# Altium integrated library Linear Technology Power Management LDO Linear Regulators.IntLib: 2339 symbols (part 48 of 131)
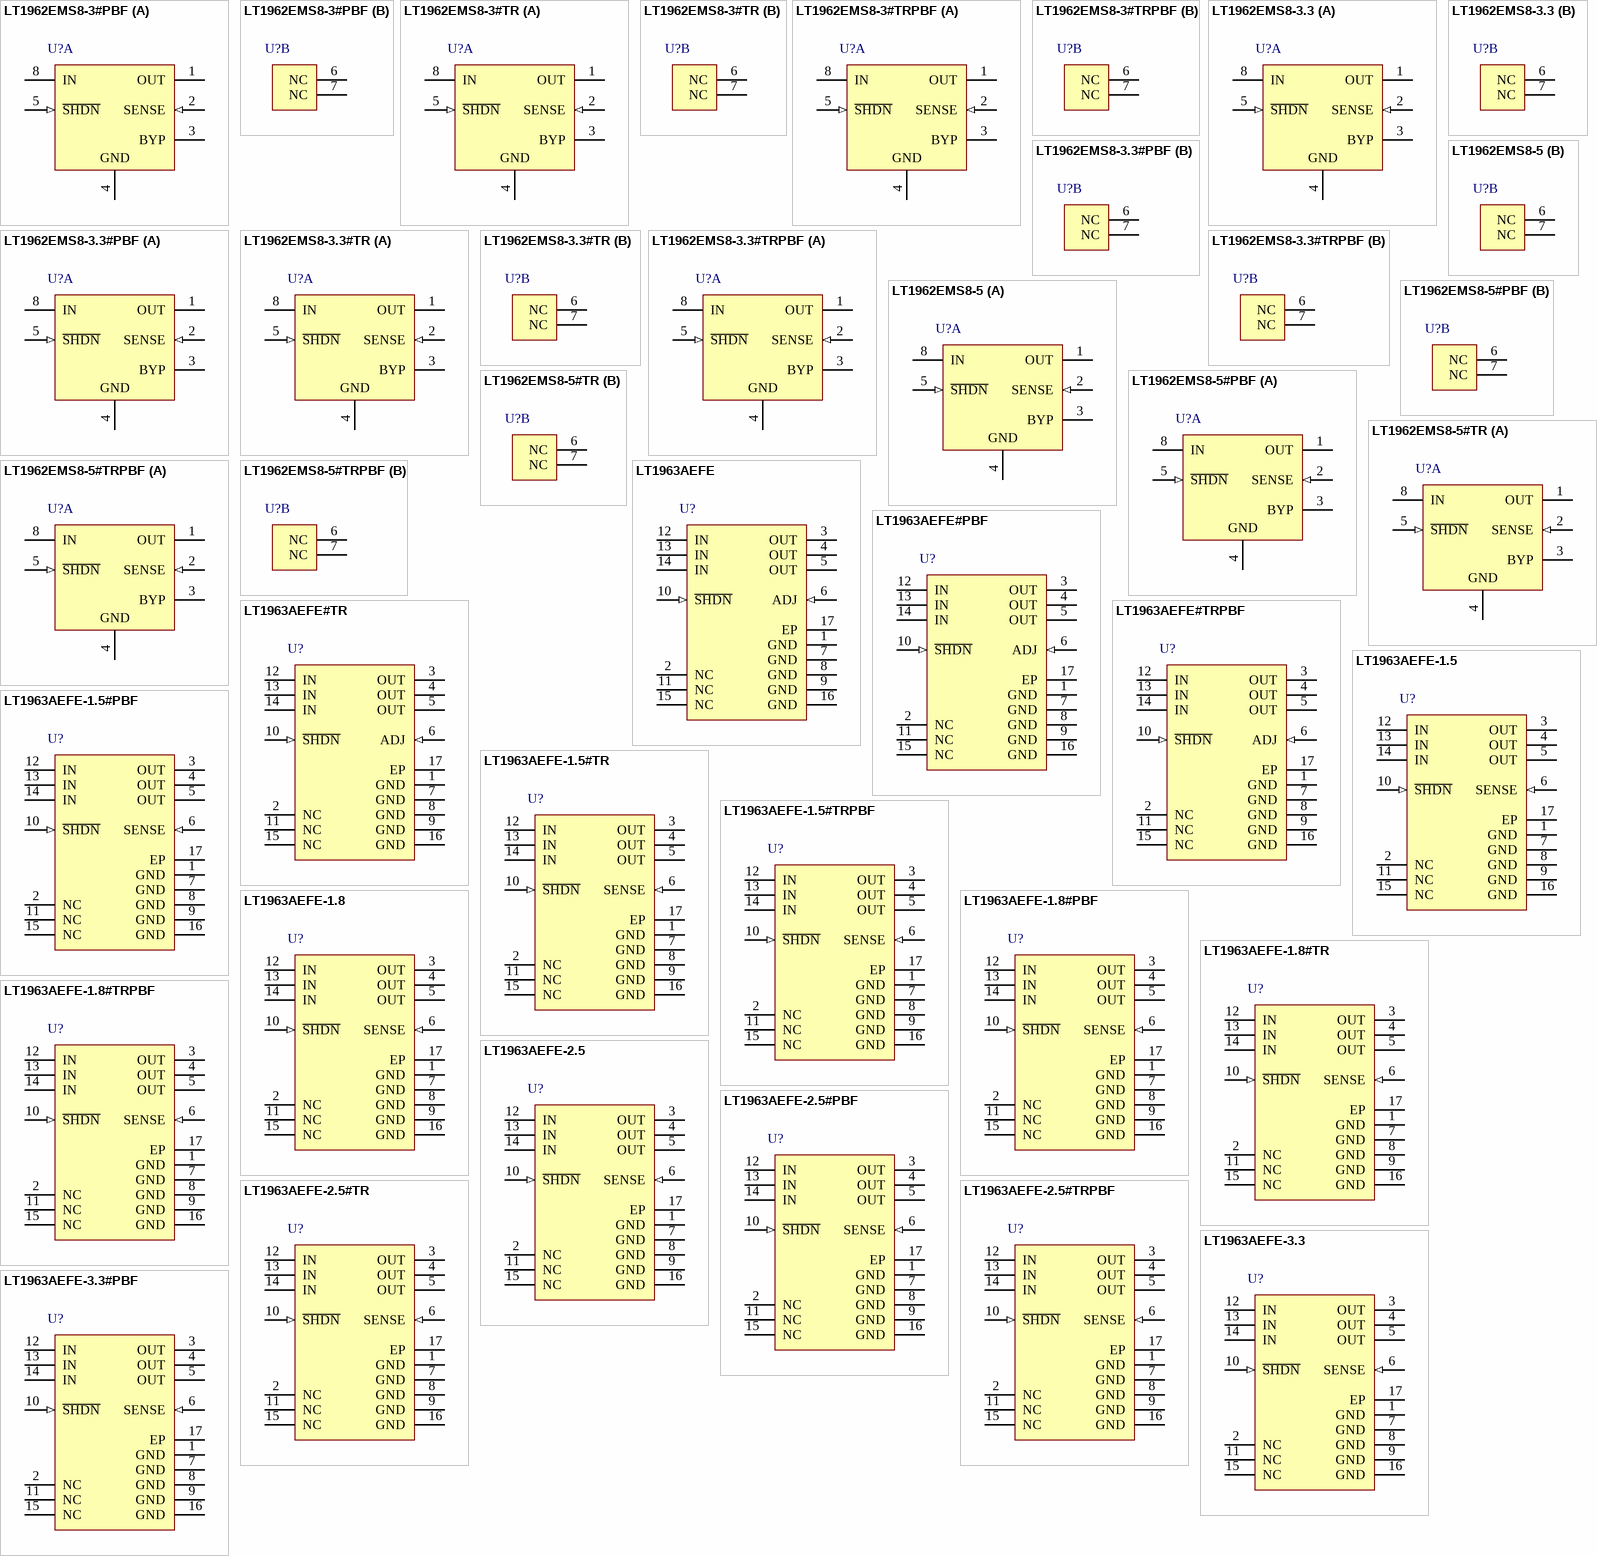
[diagram p116: symbols LT1962EMS8-3#PBF to LT1963AEFE-3.3#PBF]

## LT1963AEFE-1.8#TR
designator U?
1.5 A, Low Noise, Fast Transient Response LDO Regulator, 2.1 to 20 V Vin, 1.8 V Vout, 16-pin SOP (FE-16-EPV-BB), -40 to 125 degC, Tape and Reel; Manufacturer: Linear Technology; PartNumber: LT1963AEFE-1.8#TR; Discrete Pass Element: no; Dropout Voltage(V): 0.34; Iout(mA): 1500; Isupply(mA): 1; Noise(uV): 40; Output Voltage: 1.8 V; PSRR(dB): 63; Shutdown Current(uA): 0.01; Vin Max(V): 20; Vin Min(V): 2.1; DatasheetVersion: Rev. E; PackageVersion: Rev. J, 11/2012; PackageReference: FE-16; PackageDescription: 16-Pin Plastic TSSOP, Body 5 x 4.4 mm, Pitch 0.65 mm; Number of Outputs: 1; Packing: Tape and Reel; RoHS: FALSE; Mounting Technology: Surface Mount; ComponentLink1Description: Manufacturer URL; ComponentLink1URL: http://www.linear.com/; ComponentLink2Description: Datasheet; ComponentLink2URL: http://cds.linear.com/docs/en/datasheet/1963afe.pdf; ComponentLink3Description: Package Specification; ComponentLink3URL: http://cds.linear.com/docs/en/packaging/05081663__J_FE16(BB).pdf
footprint LT-FE-16-EPV-BB_N (SOP, 16-Leads, Body 5.1x4.5mm, Pitch 0.65mm, Thermal Pad 3.58x2.94mm, IPC Medium Density)
footprint LT-FE-16-EPV-BB_L (SOP, 16-Leads, Body 5.1x4.5mm, Pitch 0.65mm, Thermal Pad 3.58x2.94mm, IPC High Density)
footprint LT-FE-16-EPV-BB_M (SOP, 16-Leads, Body 5.1x4.5mm, Pitch 0.65mm, Thermal Pad 3.58x2.94mm, IPC Low Density)
pins: 1 GND (power), 2 NC, 3 OUT (power) "Output. The output supplies power to the load. A minimum output capacitor of 10uF is required to prevent oscillations. Larger output capacitors will be required for applications with large transient loads to limit peak (See Datasheet)", 4 OUT (power) "Output. The output supplies power to the load. A minimum output capacitor of 10uF is required to prevent oscillations. Larger output capacitors will be required for applications with large transient loads to limit peak (See Datasheet)", 5 OUT (power) "Output. The output supplies power to the load. A minimum output capacitor of 10uF is required to prevent oscillations. Larger output capacitors will be required for applications with large transient loads to limit peak (See Datasheet)", 6 SENSE (in), 7 GND (power), 8 GND (power), 9 GND (power), 10 ~{SHDN} (in), 11 NC, 12 IN (power), 13 IN (power), 14 IN (power), 15 NC, 16 GND (power), 17 EP (power)

## LT1963AEFE-1.8#TRPBF
designator U?
1.5 A, Low Noise, Fast Transient Response LDO Regulator, 2.1 to 20 V Vin, 1.8 V Vout, 16-pin SOP (FE-16-EPV-BB), -40 to 125 degC, Pb-Free, Tape and Reel; Manufacturer: Linear Technology; PartNumber: LT1963AEFE-1.8#TRPBF; Discrete Pass Element: no; Dropout Voltage(V): 0.34; Iout(mA): 1500; Isupply(mA): 1; Noise(uV): 40; Output Voltage: 1.8 V; PSRR(dB): 63; Shutdown Current(uA): 0.01; Vin Max(V): 20; Vin Min(V): 2.1; DatasheetVersion: Rev. E; PackageVersion: Rev. J, 11/2012; PackageReference: FE-16; PackageDescription: 16-Pin Plastic TSSOP, Body 5 x 4.4 mm, Pitch 0.65 mm; Supplier 1: Digi-Key; Supplier Part Number 1: LT1963AEFE-1.8#TRPBF-ND; Number of Outputs: 1; Packing: Tape and Reel; RoHS: TRUE; Mounting Technology: Surface Mount; ComponentLink1Description: Manufacturer URL; ComponentLink1URL: http://www.linear.com/; ComponentLink2Description: Datasheet; ComponentLink2URL: http://cds.linear.com/docs/en/datasheet/1963afe.pdf; ComponentLink3Description: Package Specification; ComponentLink3URL: http://cds.linear.com/docs/en/packaging/05081663__J_FE16(BB).pdf
footprint LT-FE-16-EPV-BB_N (SOP, 16-Leads, Body 5.1x4.5mm, Pitch 0.65mm, Thermal Pad 3.58x2.94mm, IPC Medium Density)
footprint LT-FE-16-EPV-BB_L (SOP, 16-Leads, Body 5.1x4.5mm, Pitch 0.65mm, Thermal Pad 3.58x2.94mm, IPC High Density)
footprint LT-FE-16-EPV-BB_M (SOP, 16-Leads, Body 5.1x4.5mm, Pitch 0.65mm, Thermal Pad 3.58x2.94mm, IPC Low Density)
pins: 1 GND (power), 2 NC, 3 OUT (power) "Output. The output supplies power to the load. A minimum output capacitor of 10uF is required to prevent oscillations. Larger output capacitors will be required for applications with large transient loads to limit peak (See Datasheet)", 4 OUT (power) "Output. The output supplies power to the load. A minimum output capacitor of 10uF is required to prevent oscillations. Larger output capacitors will be required for applications with large transient loads to limit peak (See Datasheet)", 5 OUT (power) "Output. The output supplies power to the load. A minimum output capacitor of 10uF is required to prevent oscillations. Larger output capacitors will be required for applications with large transient loads to limit peak (See Datasheet)", 6 SENSE (in), 7 GND (power), 8 GND (power), 9 GND (power), 10 ~{SHDN} (in), 11 NC, 12 IN (power), 13 IN (power), 14 IN (power), 15 NC, 16 GND (power), 17 EP (power)

## LT1963AEFE-2.5
designator U?
1.5 A, Low Noise, Fast Transient Response LDO Regulator, 2.1 to 20 V Vin, 2.5 V Vout, 16-pin SOP (FE-16-EPV-BB), -40 to 125 degC; Manufacturer: Linear Technology; PartNumber: LT1963AEFE-2.5; Discrete Pass Element: no; Dropout Voltage(V): 0.34; Iout(mA): 1500; Isupply(mA): 1; Noise(uV): 40; Output Voltage: 2.5 V; PSRR(dB): 63; Shutdown Current(uA): 0.01; Vin Max(V): 20; Vin Min(V): 2.1; DatasheetVersion: Rev. E; PackageVersion: Rev. J, 11/2012; PackageReference: FE-16; PackageDescription: 16-Pin Plastic TSSOP, Body 5 x 4.4 mm, Pitch 0.65 mm; Supplier 1: Newark; Supplier Part Number 1: 57M7416; Number of Outputs: 1; RoHS: FALSE; Mounting Technology: Surface Mount; ComponentLink1Description: Manufacturer URL; ComponentLink1URL: http://www.linear.com/; ComponentLink2Description: Datasheet; ComponentLink2URL: http://cds.linear.com/docs/en/datasheet/1963afe.pdf; ComponentLink3Description: Package Specification; ComponentLink3URL: http://cds.linear.com/docs/en/packaging/05081663__J_FE16(BB).pdf
footprint LT-FE-16-EPV-BB_N (SOP, 16-Leads, Body 5.1x4.5mm, Pitch 0.65mm, Thermal Pad 3.58x2.94mm, IPC Medium Density)
footprint LT-FE-16-EPV-BB_L (SOP, 16-Leads, Body 5.1x4.5mm, Pitch 0.65mm, Thermal Pad 3.58x2.94mm, IPC High Density)
footprint LT-FE-16-EPV-BB_M (SOP, 16-Leads, Body 5.1x4.5mm, Pitch 0.65mm, Thermal Pad 3.58x2.94mm, IPC Low Density)
pins: 1 GND (power), 2 NC, 3 OUT (power) "Output. The output supplies power to the load. A minimum output capacitor of 10uF is required to prevent oscillations. Larger output capacitors will be required for applications with large transient loads to limit peak (See Datasheet)", 4 OUT (power) "Output. The output supplies power to the load. A minimum output capacitor of 10uF is required to prevent oscillations. Larger output capacitors will be required for applications with large transient loads to limit peak (See Datasheet)", 5 OUT (power) "Output. The output supplies power to the load. A minimum output capacitor of 10uF is required to prevent oscillations. Larger output capacitors will be required for applications with large transient loads to limit peak (See Datasheet)", 6 SENSE (in), 7 GND (power), 8 GND (power), 9 GND (power), 10 ~{SHDN} (in), 11 NC, 12 IN (power), 13 IN (power), 14 IN (power), 15 NC, 16 GND (power), 17 EP (power)

## LT1963AEFE-2.5#PBF
designator U?
1.5 A, Low Noise, Fast Transient Response LDO Regulator, 2.1 to 20 V Vin, 2.5 V Vout, 16-pin SOP (FE-16-EPV-BB), -40 to 125 degC, Pb-Free; Manufacturer: Linear Technology; PartNumber: LT1963AEFE-2.5#PBF; Discrete Pass Element: no; Dropout Voltage(V): 0.34; Iout(mA): 1500; Isupply(mA): 1; Noise(uV): 40; Output Voltage: 2.5 V; PSRR(dB): 63; Shutdown Current(uA): 0.01; Vin Max(V): 20; Vin Min(V): 2.1; DatasheetVersion: Rev. E; PackageVersion: Rev. J, 11/2012; PackageReference: FE-16; PackageDescription: 16-Pin Plastic TSSOP, Body 5 x 4.4 mm, Pitch 0.65 mm; Supplier 1: Digi-Key; Supplier Part Number 1: LT1963AEFE-2.5#PBF-ND; Supplier 2: Newark; Supplier Part Number 2: 57M7417; Number of Outputs: 1; RoHS: TRUE; Mounting Technology: Surface Mount; ComponentLink1Description: Manufacturer URL; ComponentLink1URL: http://www.linear.com/; ComponentLink2Description: Datasheet; ComponentLink2URL: http://cds.linear.com/docs/en/datasheet/1963afe.pdf; ComponentLink3Description: Package Specification; ComponentLink3URL: http://cds.linear.com/docs/en/packaging/05081663__J_FE16(BB).pdf
footprint LT-FE-16-EPV-BB_N (SOP, 16-Leads, Body 5.1x4.5mm, Pitch 0.65mm, Thermal Pad 3.58x2.94mm, IPC Medium Density)
footprint LT-FE-16-EPV-BB_L (SOP, 16-Leads, Body 5.1x4.5mm, Pitch 0.65mm, Thermal Pad 3.58x2.94mm, IPC High Density)
footprint LT-FE-16-EPV-BB_M (SOP, 16-Leads, Body 5.1x4.5mm, Pitch 0.65mm, Thermal Pad 3.58x2.94mm, IPC Low Density)
pins: 1 GND (power), 2 NC, 3 OUT (power) "Output. The output supplies power to the load. A minimum output capacitor of 10uF is required to prevent oscillations. Larger output capacitors will be required for applications with large transient loads to limit peak (See Datasheet)", 4 OUT (power) "Output. The output supplies power to the load. A minimum output capacitor of 10uF is required to prevent oscillations. Larger output capacitors will be required for applications with large transient loads to limit peak (See Datasheet)", 5 OUT (power) "Output. The output supplies power to the load. A minimum output capacitor of 10uF is required to prevent oscillations. Larger output capacitors will be required for applications with large transient loads to limit peak (See Datasheet)", 6 SENSE (in), 7 GND (power), 8 GND (power), 9 GND (power), 10 ~{SHDN} (in), 11 NC, 12 IN (power), 13 IN (power), 14 IN (power), 15 NC, 16 GND (power), 17 EP (power)

## LT1963AEFE-2.5#TR
designator U?
1.5 A, Low Noise, Fast Transient Response LDO Regulator, 2.1 to 20 V Vin, 2.5 V Vout, 16-pin SOP (FE-16-EPV-BB), -40 to 125 degC, Tape and Reel; Manufacturer: Linear Technology; PartNumber: LT1963AEFE-2.5#TR; Discrete Pass Element: no; Dropout Voltage(V): 0.34; Iout(mA): 1500; Isupply(mA): 1; Noise(uV): 40; Output Voltage: 2.5 V; PSRR(dB): 63; Shutdown Current(uA): 0.01; Vin Max(V): 20; Vin Min(V): 2.1; DatasheetVersion: Rev. E; PackageVersion: Rev. J, 11/2012; PackageReference: FE-16; PackageDescription: 16-Pin Plastic TSSOP, Body 5 x 4.4 mm, Pitch 0.65 mm; Supplier 1: Newark; Supplier Part Number 1: 57M7418; Number of Outputs: 1; Packing: Tape and Reel; RoHS: FALSE; Mounting Technology: Surface Mount; ComponentLink1Description: Manufacturer URL; ComponentLink1URL: http://www.linear.com/; ComponentLink2Description: Datasheet; ComponentLink2URL: http://cds.linear.com/docs/en/datasheet/1963afe.pdf; ComponentLink3Description: Package Specification; ComponentLink3URL: http://cds.linear.com/docs/en/packaging/05081663__J_FE16(BB).pdf
footprint LT-FE-16-EPV-BB_N (SOP, 16-Leads, Body 5.1x4.5mm, Pitch 0.65mm, Thermal Pad 3.58x2.94mm, IPC Medium Density)
footprint LT-FE-16-EPV-BB_L (SOP, 16-Leads, Body 5.1x4.5mm, Pitch 0.65mm, Thermal Pad 3.58x2.94mm, IPC High Density)
footprint LT-FE-16-EPV-BB_M (SOP, 16-Leads, Body 5.1x4.5mm, Pitch 0.65mm, Thermal Pad 3.58x2.94mm, IPC Low Density)
pins: 1 GND (power), 2 NC, 3 OUT (power) "Output. The output supplies power to the load. A minimum output capacitor of 10uF is required to prevent oscillations. Larger output capacitors will be required for applications with large transient loads to limit peak (See Datasheet)", 4 OUT (power) "Output. The output supplies power to the load. A minimum output capacitor of 10uF is required to prevent oscillations. Larger output capacitors will be required for applications with large transient loads to limit peak (See Datasheet)", 5 OUT (power) "Output. The output supplies power to the load. A minimum output capacitor of 10uF is required to prevent oscillations. Larger output capacitors will be required for applications with large transient loads to limit peak (See Datasheet)", 6 SENSE (in), 7 GND (power), 8 GND (power), 9 GND (power), 10 ~{SHDN} (in), 11 NC, 12 IN (power), 13 IN (power), 14 IN (power), 15 NC, 16 GND (power), 17 EP (power)

## LT1963AEFE-2.5#TRPBF
designator U?
1.5 A, Low Noise, Fast Transient Response LDO Regulator, 2.1 to 20 V Vin, 2.5 V Vout, 16-pin SOP (FE-16-EPV-BB), -40 to 125 degC, Pb-Free, Tape and Reel; Manufacturer: Linear Technology; PartNumber: LT1963AEFE-2.5#TRPBF; Discrete Pass Element: no; Dropout Voltage(V): 0.34; Iout(mA): 1500; Isupply(mA): 1; Noise(uV): 40; Output Voltage: 2.5 V; PSRR(dB): 63; Shutdown Current(uA): 0.01; Vin Max(V): 20; Vin Min(V): 2.1; DatasheetVersion: Rev. E; PackageVersion: Rev. J, 11/2012; PackageReference: FE-16; PackageDescription: 16-Pin Plastic TSSOP, Body 5 x 4.4 mm, Pitch 0.65 mm; Supplier 1: Digi-Key; Supplier Part Number 1: LT1963AEFE-2.5#TRPBF-ND; Number of Outputs: 1; Packing: Tape and Reel; RoHS: TRUE; Mounting Technology: Surface Mount; ComponentLink1Description: Manufacturer URL; ComponentLink1URL: http://www.linear.com/; ComponentLink2Description: Datasheet; ComponentLink2URL: http://cds.linear.com/docs/en/datasheet/1963afe.pdf; ComponentLink3Description: Package Specification; ComponentLink3URL: http://cds.linear.com/docs/en/packaging/05081663__J_FE16(BB).pdf
footprint LT-FE-16-EPV-BB_N (SOP, 16-Leads, Body 5.1x4.5mm, Pitch 0.65mm, Thermal Pad 3.58x2.94mm, IPC Medium Density)
footprint LT-FE-16-EPV-BB_L (SOP, 16-Leads, Body 5.1x4.5mm, Pitch 0.65mm, Thermal Pad 3.58x2.94mm, IPC High Density)
footprint LT-FE-16-EPV-BB_M (SOP, 16-Leads, Body 5.1x4.5mm, Pitch 0.65mm, Thermal Pad 3.58x2.94mm, IPC Low Density)
pins: 1 GND (power), 2 NC, 3 OUT (power) "Output. The output supplies power to the load. A minimum output capacitor of 10uF is required to prevent oscillations. Larger output capacitors will be required for applications with large transient loads to limit peak (See Datasheet)", 4 OUT (power) "Output. The output supplies power to the load. A minimum output capacitor of 10uF is required to prevent oscillations. Larger output capacitors will be required for applications with large transient loads to limit peak (See Datasheet)", 5 OUT (power) "Output. The output supplies power to the load. A minimum output capacitor of 10uF is required to prevent oscillations. Larger output capacitors will be required for applications with large transient loads to limit peak (See Datasheet)", 6 SENSE (in), 7 GND (power), 8 GND (power), 9 GND (power), 10 ~{SHDN} (in), 11 NC, 12 IN (power), 13 IN (power), 14 IN (power), 15 NC, 16 GND (power), 17 EP (power)

## LT1963AEFE-3.3
designator U?
1.5 A, Low Noise, Fast Transient Response LDO Regulator, 2.1 to 20 V Vin, 3.3 V Vout, 16-pin SOP (FE-16-EPV-BB), -40 to 125 degC; Manufacturer: Linear Technology; PartNumber: LT1963AEFE-3.3; Discrete Pass Element: no; Dropout Voltage(V): 0.34; Iout(mA): 1500; Isupply(mA): 1; Noise(uV): 40; Output Voltage: 3.3 V; PSRR(dB): 63; Shutdown Current(uA): 0.01; Vin Max(V): 20; Vin Min(V): 2.1; DatasheetVersion: Rev. E; PackageVersion: Rev. J, 11/2012; PackageReference: FE-16; PackageDescription: 16-Pin Plastic TSSOP, Body 5 x 4.4 mm, Pitch 0.65 mm; Number of Outputs: 1; RoHS: FALSE; Mounting Technology: Surface Mount; ComponentLink1Description: Manufacturer URL; ComponentLink1URL: http://www.linear.com/; ComponentLink2Description: Datasheet; ComponentLink2URL: http://cds.linear.com/docs/en/datasheet/1963afe.pdf; ComponentLink3Description: Package Specification; ComponentLink3URL: http://cds.linear.com/docs/en/packaging/05081663__J_FE16(BB).pdf
footprint LT-FE-16-EPV-BB_N (SOP, 16-Leads, Body 5.1x4.5mm, Pitch 0.65mm, Thermal Pad 3.58x2.94mm, IPC Medium Density)
footprint LT-FE-16-EPV-BB_L (SOP, 16-Leads, Body 5.1x4.5mm, Pitch 0.65mm, Thermal Pad 3.58x2.94mm, IPC High Density)
footprint LT-FE-16-EPV-BB_M (SOP, 16-Leads, Body 5.1x4.5mm, Pitch 0.65mm, Thermal Pad 3.58x2.94mm, IPC Low Density)
pins: 1 GND (power), 2 NC, 3 OUT (power) "Output. The output supplies power to the load. A minimum output capacitor of 10uF is required to prevent oscillations. Larger output capacitors will be required for applications with large transient loads to limit peak (See Datasheet)", 4 OUT (power) "Output. The output supplies power to the load. A minimum output capacitor of 10uF is required to prevent oscillations. Larger output capacitors will be required for applications with large transient loads to limit peak (See Datasheet)", 5 OUT (power) "Output. The output supplies power to the load. A minimum output capacitor of 10uF is required to prevent oscillations. Larger output capacitors will be required for applications with large transient loads to limit peak (See Datasheet)", 6 SENSE (in), 7 GND (power), 8 GND (power), 9 GND (power), 10 ~{SHDN} (in), 11 NC, 12 IN (power), 13 IN (power), 14 IN (power), 15 NC, 16 GND (power), 17 EP (power)

## LT1963AEFE-3.3#PBF
designator U?
1.5 A, Low Noise, Fast Transient Response LDO Regulator, 2.1 to 20 V Vin, 3.3 V Vout, 16-pin SOP (FE-16-EPV-BB), -40 to 125 degC, Pb-Free; Manufacturer: Linear Technology; PartNumber: LT1963AEFE-3.3#PBF; Discrete Pass Element: no; Dropout Voltage(V): 0.34; Iout(mA): 1500; Isupply(mA): 1; Noise(uV): 40; Output Voltage: 3.3 V; PSRR(dB): 63; Shutdown Current(uA): 0.01; Vin Max(V): 20; Vin Min(V): 2.1; DatasheetVersion: Rev. E; PackageVersion: Rev. J, 11/2012; PackageReference: FE-16; PackageDescription: 16-Pin Plastic TSSOP, Body 5 x 4.4 mm, Pitch 0.65 mm; Supplier 1: Digi-Key; Supplier Part Number 1: LT1963AEFE-3.3#PBF-ND; Supplier 2: Farnell; Supplier Part Number 2: 2254861; Supplier 3: Newark; Supplier Part Number 3: 57M7421; Number of Outputs: 1; RoHS: TRUE; Mounting Technology: Surface Mount; ComponentLink1Description: Manufacturer URL; ComponentLink1URL: http://www.linear.com/; ComponentLink2Description: Datasheet; ComponentLink2URL: http://cds.linear.com/docs/en/datasheet/1963afe.pdf; ComponentLink3Description: Package Specification; ComponentLink3URL: http://cds.linear.com/docs/en/packaging/05081663__J_FE16(BB).pdf
footprint LT-FE-16-EPV-BB_N (SOP, 16-Leads, Body 5.1x4.5mm, Pitch 0.65mm, Thermal Pad 3.58x2.94mm, IPC Medium Density)
footprint LT-FE-16-EPV-BB_L (SOP, 16-Leads, Body 5.1x4.5mm, Pitch 0.65mm, Thermal Pad 3.58x2.94mm, IPC High Density)
footprint LT-FE-16-EPV-BB_M (SOP, 16-Leads, Body 5.1x4.5mm, Pitch 0.65mm, Thermal Pad 3.58x2.94mm, IPC Low Density)
pins: 1 GND (power), 2 NC, 3 OUT (power) "Output. The output supplies power to the load. A minimum output capacitor of 10uF is required to prevent oscillations. Larger output capacitors will be required for applications with large transient loads to limit peak (See Datasheet)", 4 OUT (power) "Output. The output supplies power to the load. A minimum output capacitor of 10uF is required to prevent oscillations. Larger output capacitors will be required for applications with large transient loads to limit peak (See Datasheet)", 5 OUT (power) "Output. The output supplies power to the load. A minimum output capacitor of 10uF is required to prevent oscillations. Larger output capacitors will be required for applications with large transient loads to limit peak (See Datasheet)", 6 SENSE (in), 7 GND (power), 8 GND (power), 9 GND (power), 10 ~{SHDN} (in), 11 NC, 12 IN (power), 13 IN (power), 14 IN (power), 15 NC, 16 GND (power), 17 EP (power)

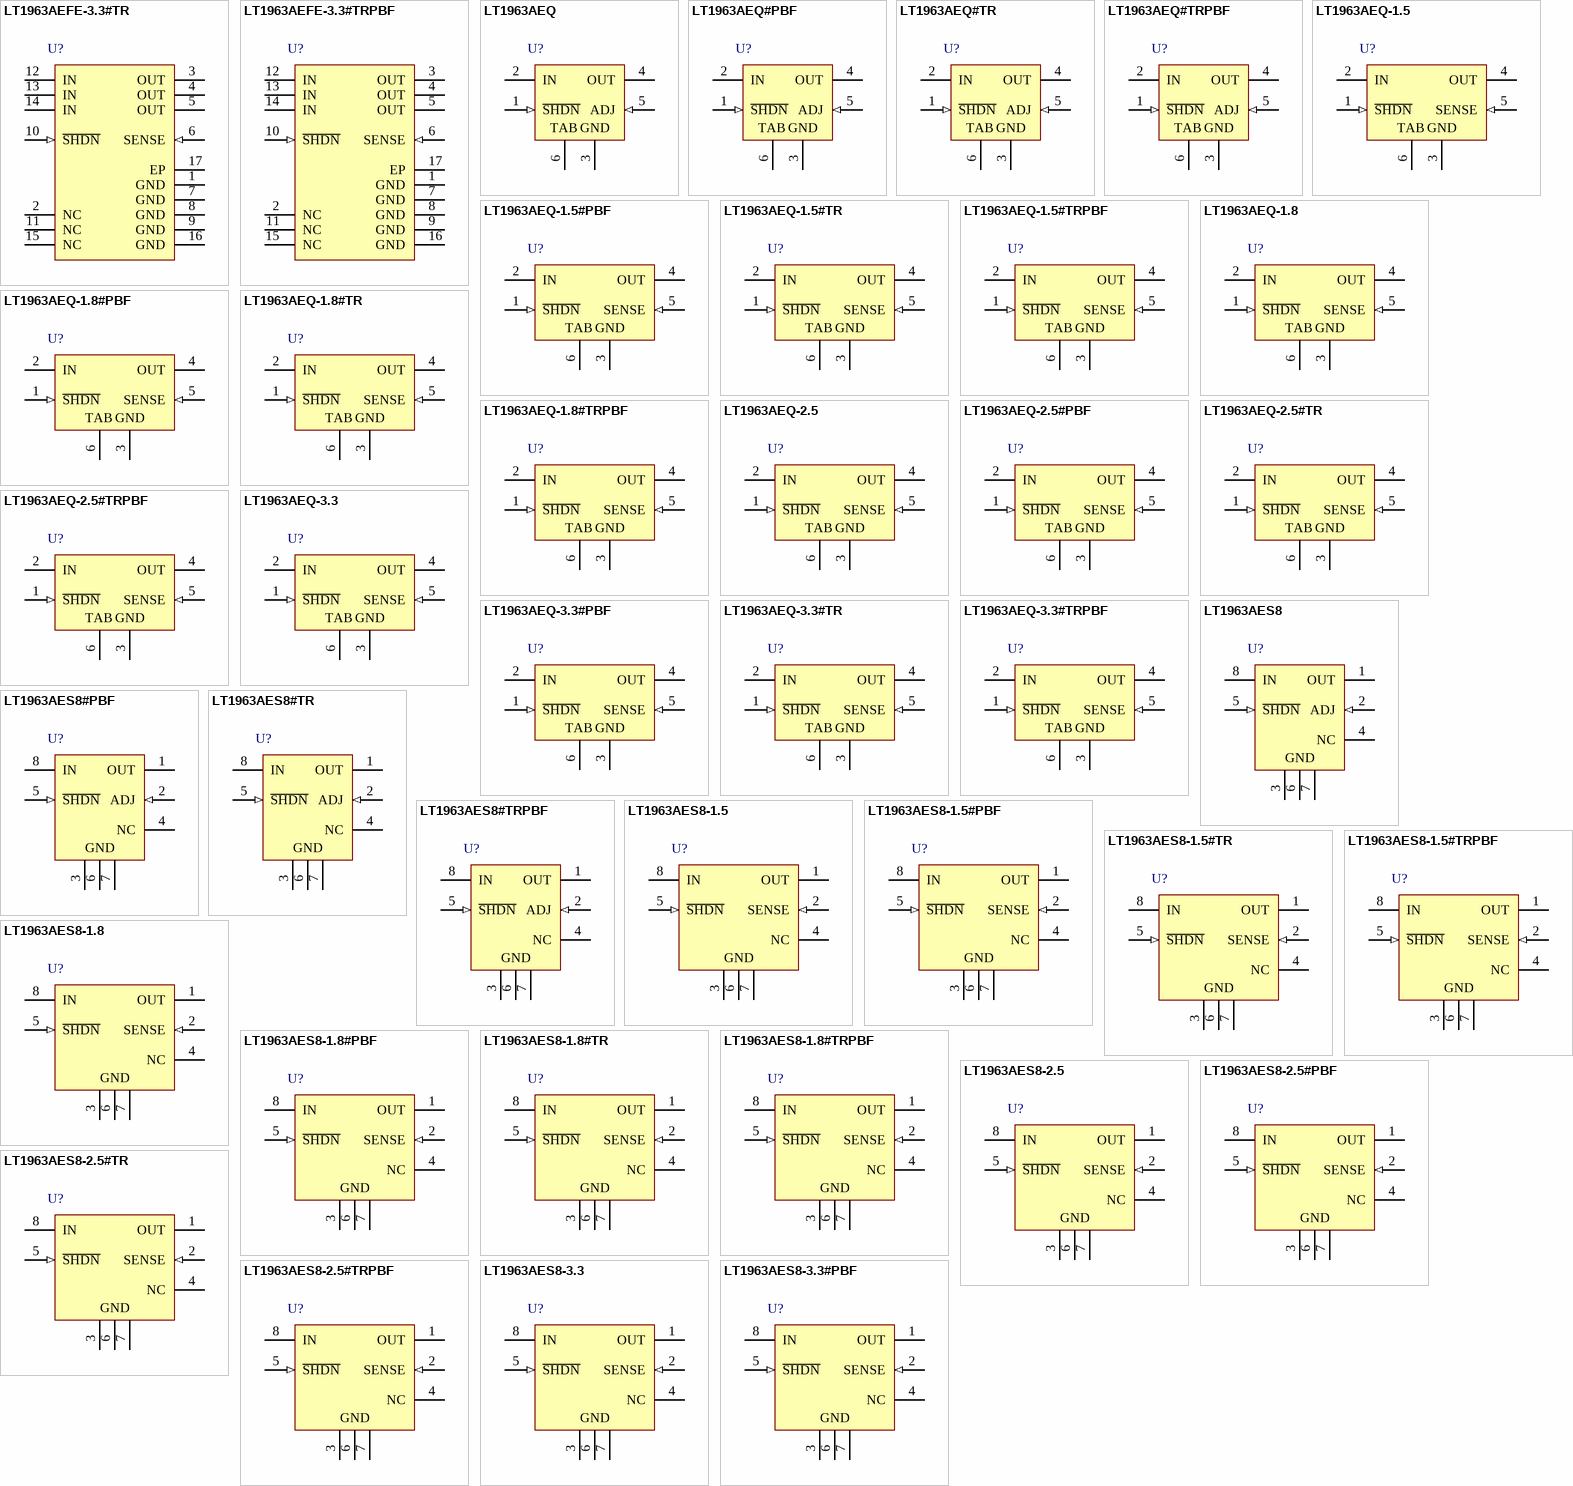
[diagram p32: symbols LT1963AEFE-3.3#TR to LT1963AES8-3.3#PBF]

## LT1963AEFE-3.3#TR
designator U?
1.5 A, Low Noise, Fast Transient Response LDO Regulator, 2.1 to 20 V Vin, 3.3 V Vout, 16-pin SOP (FE-16-EPV-BB), -40 to 125 degC, Tape and Reel; Manufacturer: Linear Technology; PartNumber: LT1963AEFE-3.3#TR; Discrete Pass Element: no; Dropout Voltage(V): 0.34; Iout(mA): 1500; Isupply(mA): 1; Noise(uV): 40; Output Voltage: 3.3 V; PSRR(dB): 63; Shutdown Current(uA): 0.01; Vin Max(V): 20; Vin Min(V): 2.1; DatasheetVersion: Rev. E; PackageVersion: Rev. J, 11/2012; PackageReference: FE-16; PackageDescription: 16-Pin Plastic TSSOP, Body 5 x 4.4 mm, Pitch 0.65 mm; Number of Outputs: 1; Packing: Tape and Reel; RoHS: FALSE; Mounting Technology: Surface Mount; ComponentLink1Description: Manufacturer URL; ComponentLink1URL: http://www.linear.com/; ComponentLink2Description: Datasheet; ComponentLink2URL: http://cds.linear.com/docs/en/datasheet/1963afe.pdf; ComponentLink3Description: Package Specification; ComponentLink3URL: http://cds.linear.com/docs/en/packaging/05081663__J_FE16(BB).pdf
footprint LT-FE-16-EPV-BB_N (SOP, 16-Leads, Body 5.1x4.5mm, Pitch 0.65mm, Thermal Pad 3.58x2.94mm, IPC Medium Density)
footprint LT-FE-16-EPV-BB_L (SOP, 16-Leads, Body 5.1x4.5mm, Pitch 0.65mm, Thermal Pad 3.58x2.94mm, IPC High Density)
footprint LT-FE-16-EPV-BB_M (SOP, 16-Leads, Body 5.1x4.5mm, Pitch 0.65mm, Thermal Pad 3.58x2.94mm, IPC Low Density)
pins: 1 GND (power), 2 NC, 3 OUT (power) "Output. The output supplies power to the load. A minimum output capacitor of 10uF is required to prevent oscillations. Larger output capacitors will be required for applications with large transient loads to limit peak (See Datasheet)", 4 OUT (power) "Output. The output supplies power to the load. A minimum output capacitor of 10uF is required to prevent oscillations. Larger output capacitors will be required for applications with large transient loads to limit peak (See Datasheet)", 5 OUT (power) "Output. The output supplies power to the load. A minimum output capacitor of 10uF is required to prevent oscillations. Larger output capacitors will be required for applications with large transient loads to limit peak (See Datasheet)", 6 SENSE (in), 7 GND (power), 8 GND (power), 9 GND (power), 10 ~{SHDN} (in), 11 NC, 12 IN (power), 13 IN (power), 14 IN (power), 15 NC, 16 GND (power), 17 EP (power)

## LT1963AEFE-3.3#TRPBF
designator U?
1.5 A, Low Noise, Fast Transient Response LDO Regulator, 2.1 to 20 V Vin, 3.3 V Vout, 16-pin SOP (FE-16-EPV-BB), -40 to 125 degC, Pb-Free, Tape and Reel; Manufacturer: Linear Technology; PartNumber: LT1963AEFE-3.3#TRPBF; Discrete Pass Element: no; Dropout Voltage(V): 0.34; Iout(mA): 1500; Isupply(mA): 1; Noise(uV): 40; Output Voltage: 3.3 V; PSRR(dB): 63; Shutdown Current(uA): 0.01; Vin Max(V): 20; Vin Min(V): 2.1; DatasheetVersion: Rev. E; PackageVersion: Rev. J, 11/2012; PackageReference: FE-16; PackageDescription: 16-Pin Plastic TSSOP, Body 5 x 4.4 mm, Pitch 0.65 mm; Supplier 1: Digi-Key; Supplier Part Number 1: LT1963AEFE-3.3#TRPBF-ND; Supplier 2: Newark; Supplier Part Number 2: 57M7423; Number of Outputs: 1; Packing: Tape and Reel; RoHS: TRUE; Mounting Technology: Surface Mount; ComponentLink1Description: Manufacturer URL; ComponentLink1URL: http://www.linear.com/; ComponentLink2Description: Datasheet; ComponentLink2URL: http://cds.linear.com/docs/en/datasheet/1963afe.pdf; ComponentLink3Description: Package Specification; ComponentLink3URL: http://cds.linear.com/docs/en/packaging/05081663__J_FE16(BB).pdf
footprint LT-FE-16-EPV-BB_N (SOP, 16-Leads, Body 5.1x4.5mm, Pitch 0.65mm, Thermal Pad 3.58x2.94mm, IPC Medium Density)
footprint LT-FE-16-EPV-BB_L (SOP, 16-Leads, Body 5.1x4.5mm, Pitch 0.65mm, Thermal Pad 3.58x2.94mm, IPC High Density)
footprint LT-FE-16-EPV-BB_M (SOP, 16-Leads, Body 5.1x4.5mm, Pitch 0.65mm, Thermal Pad 3.58x2.94mm, IPC Low Density)
pins: 1 GND (power), 2 NC, 3 OUT (power) "Output. The output supplies power to the load. A minimum output capacitor of 10uF is required to prevent oscillations. Larger output capacitors will be required for applications with large transient loads to limit peak (See Datasheet)", 4 OUT (power) "Output. The output supplies power to the load. A minimum output capacitor of 10uF is required to prevent oscillations. Larger output capacitors will be required for applications with large transient loads to limit peak (See Datasheet)", 5 OUT (power) "Output. The output supplies power to the load. A minimum output capacitor of 10uF is required to prevent oscillations. Larger output capacitors will be required for applications with large transient loads to limit peak (See Datasheet)", 6 SENSE (in), 7 GND (power), 8 GND (power), 9 GND (power), 10 ~{SHDN} (in), 11 NC, 12 IN (power), 13 IN (power), 14 IN (power), 15 NC, 16 GND (power), 17 EP (power)

## LT1963AEQ
designator U?
1.5 A, Low Noise, Fast Transient Response LDO Regulator, 2.1 to 20 V Vin, Adjustable Vout, 5-pin DPAK (Q-5), -40 to 125 degC; Manufacturer: Linear Technology; PartNumber: LT1963AEQ; Discrete Pass Element: no; Dropout Voltage(V): 0.34; Iout(mA): 1500; Isupply(mA): 1; Noise(uV): 40; Output Voltage: Adj; PSRR(dB): 63; Shutdown Current(uA): 0.01; Vin Max(V): 20; Vin Min(V): 2.1; Vout Min(V): 1.21; DatasheetVersion: Rev. E; PackageVersion: Rev. F, 09/2011; PackageReference: Q-5; PackageDescription: 5-Pin Plastic DD Pak, Body 10.2235 x 8.89 mm, Pitch 1.702 mm; Supplier 1: Digi-Key; Supplier Part Number 1: LT1963AEQ-ND; Supplier 2: Newark; Supplier Part Number 2: 57M7427; Number of Outputs: 1; RoHS: FALSE; Vout Max(V): 20; Mounting Technology: Surface Mount; ComponentLink1Description: Manufacturer URL; ComponentLink1URL: http://www.linear.com/; ComponentLink2Description: Datasheet; ComponentLink2URL: http://cds.linear.com/docs/en/datasheet/1963afe.pdf; ComponentLink3Description: Package Specification; ComponentLink3URL: http://cds.linear.com/docs/en/packaging/Q%20DD5%2005-08-1461%20Rev%20F.pdf
footprint LT-Q-5_N (DPAK, 5-Leads, Body 10.22x8.89mm, Pitch 1.702mm, IPC Medium Density)
footprint LT-Q-5_L (DPAK, 5-Leads, Body 10.22x8.89mm, Pitch 1.702mm, IPC High Density)
footprint LT-Q-5_M (DPAK, 5-Leads, Body 10.22x8.89mm, Pitch 1.702mm, IPC Low Density)
pins: 1 ~{SHDN} (in) "Shutdown", 2 IN (power) "Input", 3 GND (power) "Ground", 4 OUT (power) "Output", 5 ADJ (in) "Adjust", 6 TAB (power) "Ground"

## LT1963AEQ#PBF
designator U?
1.5 A, Low Noise, Fast Transient Response LDO Regulator, 2.1 to 20 V Vin, Adjustable Vout, 5-pin DPAK (Q-5), -40 to 125 degC, Pb-Free; Manufacturer: Linear Technology; PartNumber: LT1963AEQ#PBF; Discrete Pass Element: no; Dropout Voltage(V): 0.34; Iout(mA): 1500; Isupply(mA): 1; Noise(uV): 40; Output Voltage: Adj; PSRR(dB): 63; Shutdown Current(uA): 0.01; Vin Max(V): 20; Vin Min(V): 2.1; Vout Min(V): 1.21; DatasheetVersion: Rev. E; PackageVersion: Rev. F, 09/2011; PackageReference: Q-5; PackageDescription: 5-Pin Plastic DD Pak, Body 10.2235 x 8.89 mm, Pitch 1.702 mm; Supplier 1: Digi-Key; Supplier Part Number 1: LT1963AEQ#PBF-ND; Supplier 2: Farnell; Supplier Part Number 2: 1273625; Supplier 3: Newark; Supplier Part Number 3: 57M7443; Number of Outputs: 1; RoHS: TRUE; Vout Max(V): 20; Mounting Technology: Surface Mount; ComponentLink1Description: Manufacturer URL; ComponentLink1URL: http://www.linear.com/; ComponentLink2Description: Datasheet; ComponentLink2URL: http://cds.linear.com/docs/en/datasheet/1963afe.pdf; ComponentLink3Description: Package Specification; ComponentLink3URL: http://cds.linear.com/docs/en/packaging/Q%20DD5%2005-08-1461%20Rev%20F.pdf
footprint LT-Q-5_N (DPAK, 5-Leads, Body 10.22x8.89mm, Pitch 1.702mm, IPC Medium Density)
footprint LT-Q-5_L (DPAK, 5-Leads, Body 10.22x8.89mm, Pitch 1.702mm, IPC High Density)
footprint LT-Q-5_M (DPAK, 5-Leads, Body 10.22x8.89mm, Pitch 1.702mm, IPC Low Density)
pins: 1 ~{SHDN} (in) "Shutdown", 2 IN (power) "Input", 3 GND (power) "Ground", 4 OUT (power) "Output", 5 ADJ (in) "Adjust", 6 TAB (power) "Ground"

## LT1963AEQ#TR
designator U?
1.5 A, Low Noise, Fast Transient Response LDO Regulator, 2.1 to 20 V Vin, Adjustable Vout, 5-pin DPAK (Q-5), -40 to 125 degC, Tape and Reel; Manufacturer: Linear Technology; PartNumber: LT1963AEQ#TR; Discrete Pass Element: no; Dropout Voltage(V): 0.34; Iout(mA): 1500; Isupply(mA): 1; Noise(uV): 40; Output Voltage: Adj; PSRR(dB): 63; Shutdown Current(uA): 0.01; Vin Max(V): 20; Vin Min(V): 2.1; Vout Min(V): 1.21; DatasheetVersion: Rev. E; PackageVersion: Rev. F, 09/2011; PackageReference: Q-5; PackageDescription: 5-Pin Plastic DD Pak, Body 10.2235 x 8.89 mm, Pitch 1.702 mm; Supplier 1: Digi-Key; Supplier Part Number 1: LT1963AEQTR-ND; Supplier 2: Newark; Supplier Part Number 2: 57M7444; Number of Outputs: 1; Packing: Tape and Reel; RoHS: FALSE; Vout Max(V): 20; Mounting Technology: Surface Mount; ComponentLink1Description: Manufacturer URL; ComponentLink1URL: http://www.linear.com/; ComponentLink2Description: Datasheet; ComponentLink2URL: http://cds.linear.com/docs/en/datasheet/1963afe.pdf; ComponentLink3Description: Package Specification; ComponentLink3URL: http://cds.linear.com/docs/en/packaging/Q%20DD5%2005-08-1461%20Rev%20F.pdf
footprint LT-Q-5_N (DPAK, 5-Leads, Body 10.22x8.89mm, Pitch 1.702mm, IPC Medium Density)
footprint LT-Q-5_L (DPAK, 5-Leads, Body 10.22x8.89mm, Pitch 1.702mm, IPC High Density)
footprint LT-Q-5_M (DPAK, 5-Leads, Body 10.22x8.89mm, Pitch 1.702mm, IPC Low Density)
pins: 1 ~{SHDN} (in) "Shutdown", 2 IN (power) "Input", 3 GND (power) "Ground", 4 OUT (power) "Output", 5 ADJ (in) "Adjust", 6 TAB (power) "Ground"

## LT1963AEQ#TRPBF
designator U?
1.5 A, Low Noise, Fast Transient Response LDO Regulator, 2.1 to 20 V Vin, Adjustable Vout, 5-pin DPAK (Q-5), -40 to 125 degC, Pb-Free, Tape and Reel; Manufacturer: Linear Technology; PartNumber: LT1963AEQ#TRPBF; Discrete Pass Element: no; Dropout Voltage(V): 0.34; Iout(mA): 1500; Isupply(mA): 1; Noise(uV): 40; Output Voltage: Adj; PSRR(dB): 63; Shutdown Current(uA): 0.01; Vin Max(V): 20; Vin Min(V): 2.1; Vout Min(V): 1.21; DatasheetVersion: Rev. E; PackageVersion: Rev. F, 09/2011; PackageReference: Q-5; PackageDescription: 5-Pin Plastic DD Pak, Body 10.2235 x 8.89 mm, Pitch 1.702 mm; Supplier 1: Digi-Key; Supplier Part Number 1: LT1963AEQ#TRPBFTR-ND; Supplier 2: Digi-Key; Supplier Part Number 2: LT1963AEQ#TRPBFCT-ND; Supplier 3: Digi-Key; Supplier Part Number 3: LT1963AEQ#TRPBFDKR-ND; Supplier 4: Farnell; Supplier Part Number 4: 2113544; Supplier 5: Newark; Supplier Part Number 5: 57M7445; Number of Outputs: 1; Packing: Tape and Reel; RoHS: TRUE; Vout Max(V): 20; Mounting Technology: Surface Mount; ComponentLink1Description: Manufacturer URL; ComponentLink1URL: http://www.linear.com/; ComponentLink2Description: Datasheet; ComponentLink2URL: http://cds.linear.com/docs/en/datasheet/1963afe.pdf; ComponentLink3Description: Package Specification; ComponentLink3URL: http://cds.linear.com/docs/en/packaging/Q%20DD5%2005-08-1461%20Rev%20F.pdf
footprint LT-Q-5_N (DPAK, 5-Leads, Body 10.22x8.89mm, Pitch 1.702mm, IPC Medium Density)
footprint LT-Q-5_L (DPAK, 5-Leads, Body 10.22x8.89mm, Pitch 1.702mm, IPC High Density)
footprint LT-Q-5_M (DPAK, 5-Leads, Body 10.22x8.89mm, Pitch 1.702mm, IPC Low Density)
pins: 1 ~{SHDN} (in) "Shutdown", 2 IN (power) "Input", 3 GND (power) "Ground", 4 OUT (power) "Output", 5 ADJ (in) "Adjust", 6 TAB (power) "Ground"

## LT1963AEQ-1.5
designator U?
1.5 A, Low Noise, Fast Transient Response LDO Regulator, 2.1 to 20 V Vin, 1.5 V Vout, 5-pin DPAK (Q-5), -40 to 125 degC; Manufacturer: Linear Technology; PartNumber: LT1963AEQ-1.5; Discrete Pass Element: no; Dropout Voltage(V): 0.34; Iout(mA): 1500; Isupply(mA): 1; Noise(uV): 40; Output Voltage: 1.5 V; PSRR(dB): 63; Shutdown Current(uA): 0.01; Vin Max(V): 20; Vin Min(V): 2.1; DatasheetVersion: Rev. E; PackageVersion: Rev. F, 09/2011; PackageReference: Q-5; PackageDescription: 5-Pin Plastic DD Pak, Body 10.2235 x 8.89 mm, Pitch 1.702 mm; Supplier 1: Digi-Key; Supplier Part Number 1: LT1963AEQ-1.5-ND; Supplier 2: Newark; Supplier Part Number 2: 57M7428; Number of Outputs: 1; RoHS: FALSE; Mounting Technology: Surface Mount; ComponentLink1Description: Manufacturer URL; ComponentLink1URL: http://www.linear.com/; ComponentLink2Description: Datasheet; ComponentLink2URL: http://cds.linear.com/docs/en/datasheet/1963afe.pdf; ComponentLink3Description: Package Specification; ComponentLink3URL: http://cds.linear.com/docs/en/packaging/Q%20DD5%2005-08-1461%20Rev%20F.pdf
footprint LT-Q-5_N (DPAK, 5-Leads, Body 10.22x8.89mm, Pitch 1.702mm, IPC Medium Density)
footprint LT-Q-5_L (DPAK, 5-Leads, Body 10.22x8.89mm, Pitch 1.702mm, IPC High Density)
footprint LT-Q-5_M (DPAK, 5-Leads, Body 10.22x8.89mm, Pitch 1.702mm, IPC Low Density)
pins: 1 ~{SHDN} (in) "Shutdown. The S\H\D\N\ pin is used to put the LT1963A regulators into a low power shutdown state. The output will be off when the S\H\D\N\ pin is pulled low. The S\H\D\N\ pin can be driven either by 5V logic or (See Datasheet)", 2 IN (power) "Input. Power is supplied to the device through the IN pin. A bypass capacitor is required on this pin if the device is more than six inches away from the main input filter capacitor. In general, the output impedance of a (See Datasheet)", 3 GND (power), 4 OUT (power) "Output. The output supplies power to the load. A minimum output capacitor of 10uF is required to prevent oscillations. Larger output capacitors will be required for applications with large transient loads to limit peak (See Datasheet)", 5 SENSE (in) "Sense. For fixed voltage versions of the LT1963A (LT1963A-1.5/LT1963A-1.8/LT1963A-2.5/LT1963A-3.3), the SENSE pin is the input to the error amplifier. Optimum regulation will be obtained at the point where the SENSE pin is (See Datasheet)", 6 TAB (power)

## LT1963AEQ-1.5#PBF
designator U?
1.5 A, Low Noise, Fast Transient Response LDO Regulator, 2.1 to 20 V Vin, 1.5 V Vout, 5-pin DPAK (Q-5), -40 to 125 degC, Pb-Free; Manufacturer: Linear Technology; PartNumber: LT1963AEQ-1.5#PBF; Discrete Pass Element: no; Dropout Voltage(V): 0.34; Iout(mA): 1500; Isupply(mA): 1; Noise(uV): 40; Output Voltage: 1.5 V; PSRR(dB): 63; Shutdown Current(uA): 0.01; Vin Max(V): 20; Vin Min(V): 2.1; DatasheetVersion: Rev. E; PackageVersion: Rev. F, 09/2011; PackageReference: Q-5; PackageDescription: 5-Pin Plastic DD Pak, Body 10.2235 x 8.89 mm, Pitch 1.702 mm; Supplier 1: Digi-Key; Supplier Part Number 1: LT1963AEQ-1.5#PBF-ND; Supplier 2: Farnell; Supplier Part Number 2: 2254862; Supplier 3: Newark; Supplier Part Number 3: 57M7429; Number of Outputs: 1; RoHS: TRUE; Mounting Technology: Surface Mount; ComponentLink1Description: Manufacturer URL; ComponentLink1URL: http://www.linear.com/; ComponentLink2Description: Datasheet; ComponentLink2URL: http://cds.linear.com/docs/en/datasheet/1963afe.pdf; ComponentLink3Description: Package Specification; ComponentLink3URL: http://cds.linear.com/docs/en/packaging/Q%20DD5%2005-08-1461%20Rev%20F.pdf
footprint LT-Q-5_N (DPAK, 5-Leads, Body 10.22x8.89mm, Pitch 1.702mm, IPC Medium Density)
footprint LT-Q-5_L (DPAK, 5-Leads, Body 10.22x8.89mm, Pitch 1.702mm, IPC High Density)
footprint LT-Q-5_M (DPAK, 5-Leads, Body 10.22x8.89mm, Pitch 1.702mm, IPC Low Density)
pins: 1 ~{SHDN} (in) "Shutdown. The S\H\D\N\ pin is used to put the LT1963A regulators into a low power shutdown state. The output will be off when the S\H\D\N\ pin is pulled low. The S\H\D\N\ pin can be driven either by 5V logic or (See Datasheet)", 2 IN (power) "Input. Power is supplied to the device through the IN pin. A bypass capacitor is required on this pin if the device is more than six inches away from the main input filter capacitor. In general, the output impedance of a (See Datasheet)", 3 GND (power), 4 OUT (power) "Output. The output supplies power to the load. A minimum output capacitor of 10uF is required to prevent oscillations. Larger output capacitors will be required for applications with large transient loads to limit peak (See Datasheet)", 5 SENSE (in) "Sense. For fixed voltage versions of the LT1963A (LT1963A-1.5/LT1963A-1.8/LT1963A-2.5/LT1963A-3.3), the SENSE pin is the input to the error amplifier. Optimum regulation will be obtained at the point where the SENSE pin is (See Datasheet)", 6 TAB (power)

## LT1963AEQ-1.5#TR
designator U?
1.5 A, Low Noise, Fast Transient Response LDO Regulator, 2.1 to 20 V Vin, 1.5 V Vout, 5-pin DPAK (Q-5), -40 to 125 degC, Tape and Reel; Manufacturer: Linear Technology; PartNumber: LT1963AEQ-1.5#TR; Discrete Pass Element: no; Dropout Voltage(V): 0.34; Iout(mA): 1500; Isupply(mA): 1; Noise(uV): 40; Output Voltage: 1.5 V; PSRR(dB): 63; Shutdown Current(uA): 0.01; Vin Max(V): 20; Vin Min(V): 2.1; DatasheetVersion: Rev. E; PackageVersion: Rev. F, 09/2011; PackageReference: Q-5; PackageDescription: 5-Pin Plastic DD Pak, Body 10.2235 x 8.89 mm, Pitch 1.702 mm; Supplier 1: Digi-Key; Supplier Part Number 1: LT1963AEQ-1.5TR-ND; Number of Outputs: 1; Packing: Tape and Reel; RoHS: FALSE; Mounting Technology: Surface Mount; ComponentLink1Description: Manufacturer URL; ComponentLink1URL: http://www.linear.com/; ComponentLink2Description: Datasheet; ComponentLink2URL: http://cds.linear.com/docs/en/datasheet/1963afe.pdf; ComponentLink3Description: Package Specification; ComponentLink3URL: http://cds.linear.com/docs/en/packaging/Q%20DD5%2005-08-1461%20Rev%20F.pdf
footprint LT-Q-5_N (DPAK, 5-Leads, Body 10.22x8.89mm, Pitch 1.702mm, IPC Medium Density)
footprint LT-Q-5_L (DPAK, 5-Leads, Body 10.22x8.89mm, Pitch 1.702mm, IPC High Density)
footprint LT-Q-5_M (DPAK, 5-Leads, Body 10.22x8.89mm, Pitch 1.702mm, IPC Low Density)
pins: 1 ~{SHDN} (in) "Shutdown. The S\H\D\N\ pin is used to put the LT1963A regulators into a low power shutdown state. The output will be off when the S\H\D\N\ pin is pulled low. The S\H\D\N\ pin can be driven either by 5V logic or (See Datasheet)", 2 IN (power) "Input. Power is supplied to the device through the IN pin. A bypass capacitor is required on this pin if the device is more than six inches away from the main input filter capacitor. In general, the output impedance of a (See Datasheet)", 3 GND (power), 4 OUT (power) "Output. The output supplies power to the load. A minimum output capacitor of 10uF is required to prevent oscillations. Larger output capacitors will be required for applications with large transient loads to limit peak (See Datasheet)", 5 SENSE (in) "Sense. For fixed voltage versions of the LT1963A (LT1963A-1.5/LT1963A-1.8/LT1963A-2.5/LT1963A-3.3), the SENSE pin is the input to the error amplifier. Optimum regulation will be obtained at the point where the SENSE pin is (See Datasheet)", 6 TAB (power)

## LT1963AEQ-1.5#TRPBF
designator U?
1.5 A, Low Noise, Fast Transient Response LDO Regulator, 2.1 to 20 V Vin, 1.5 V Vout, 5-pin DPAK (Q-5), -40 to 125 degC, Pb-Free, Tape and Reel; Manufacturer: Linear Technology; PartNumber: LT1963AEQ-1.5#TRPBF; Discrete Pass Element: no; Dropout Voltage(V): 0.34; Iout(mA): 1500; Isupply(mA): 1; Noise(uV): 40; Output Voltage: 1.5 V; PSRR(dB): 63; Shutdown Current(uA): 0.01; Vin Max(V): 20; Vin Min(V): 2.1; DatasheetVersion: Rev. E; PackageVersion: Rev. F, 09/2011; PackageReference: Q-5; PackageDescription: 5-Pin Plastic DD Pak, Body 10.2235 x 8.89 mm, Pitch 1.702 mm; Supplier 1: Digi-Key; Supplier Part Number 1: LT1963AEQ-1.5#TRPBF-ND; Supplier 2: Newark; Supplier Part Number 2: 57M7431; Number of Outputs: 1; Packing: Tape and Reel; RoHS: TRUE; Mounting Technology: Surface Mount; ComponentLink1Description: Manufacturer URL; ComponentLink1URL: http://www.linear.com/; ComponentLink2Description: Datasheet; ComponentLink2URL: http://cds.linear.com/docs/en/datasheet/1963afe.pdf; ComponentLink3Description: Package Specification; ComponentLink3URL: http://cds.linear.com/docs/en/packaging/Q%20DD5%2005-08-1461%20Rev%20F.pdf
footprint LT-Q-5_N (DPAK, 5-Leads, Body 10.22x8.89mm, Pitch 1.702mm, IPC Medium Density)
footprint LT-Q-5_L (DPAK, 5-Leads, Body 10.22x8.89mm, Pitch 1.702mm, IPC High Density)
footprint LT-Q-5_M (DPAK, 5-Leads, Body 10.22x8.89mm, Pitch 1.702mm, IPC Low Density)
pins: 1 ~{SHDN} (in) "Shutdown. The S\H\D\N\ pin is used to put the LT1963A regulators into a low power shutdown state. The output will be off when the S\H\D\N\ pin is pulled low. The S\H\D\N\ pin can be driven either by 5V logic or (See Datasheet)", 2 IN (power) "Input. Power is supplied to the device through the IN pin. A bypass capacitor is required on this pin if the device is more than six inches away from the main input filter capacitor. In general, the output impedance of a (See Datasheet)", 3 GND (power), 4 OUT (power) "Output. The output supplies power to the load. A minimum output capacitor of 10uF is required to prevent oscillations. Larger output capacitors will be required for applications with large transient loads to limit peak (See Datasheet)", 5 SENSE (in) "Sense. For fixed voltage versions of the LT1963A (LT1963A-1.5/LT1963A-1.8/LT1963A-2.5/LT1963A-3.3), the SENSE pin is the input to the error amplifier. Optimum regulation will be obtained at the point where the SENSE pin is (See Datasheet)", 6 TAB (power)

## LT1963AEQ-1.8
designator U?
1.5 A, Low Noise, Fast Transient Response LDO Regulator, 2.1 to 20 V Vin, 1.8 V Vout, 5-pin DPAK (Q-5), -40 to 125 degC; Manufacturer: Linear Technology; PartNumber: LT1963AEQ-1.8; Discrete Pass Element: no; Dropout Voltage(V): 0.34; Iout(mA): 1500; Isupply(mA): 1; Noise(uV): 40; Output Voltage: 1.8 V; PSRR(dB): 63; Shutdown Current(uA): 0.01; Vin Max(V): 20; Vin Min(V): 2.1; DatasheetVersion: Rev. E; PackageVersion: Rev. F, 09/2011; PackageReference: Q-5; PackageDescription: 5-Pin Plastic DD Pak, Body 10.2235 x 8.89 mm, Pitch 1.702 mm; Supplier 1: Digi-Key; Supplier Part Number 1: LT1963AEQ-1.8-ND; Supplier 2: Newark; Supplier Part Number 2: 57M7432; Number of Outputs: 1; RoHS: FALSE; Mounting Technology: Surface Mount; ComponentLink1Description: Manufacturer URL; ComponentLink1URL: http://www.linear.com/; ComponentLink2Description: Datasheet; ComponentLink2URL: http://cds.linear.com/docs/en/datasheet/1963afe.pdf; ComponentLink3Description: Package Specification; ComponentLink3URL: http://cds.linear.com/docs/en/packaging/Q%20DD5%2005-08-1461%20Rev%20F.pdf
footprint LT-Q-5_N (DPAK, 5-Leads, Body 10.22x8.89mm, Pitch 1.702mm, IPC Medium Density)
footprint LT-Q-5_L (DPAK, 5-Leads, Body 10.22x8.89mm, Pitch 1.702mm, IPC High Density)
footprint LT-Q-5_M (DPAK, 5-Leads, Body 10.22x8.89mm, Pitch 1.702mm, IPC Low Density)
pins: 1 ~{SHDN} (in) "Shutdown. The S\H\D\N\ pin is used to put the LT1963A regulators into a low power shutdown state. The output will be off when the S\H\D\N\ pin is pulled low. The S\H\D\N\ pin can be driven either by 5V logic or (See Datasheet)", 2 IN (power) "Input. Power is supplied to the device through the IN pin. A bypass capacitor is required on this pin if the device is more than six inches away from the main input filter capacitor. In general, the output impedance of a (See Datasheet)", 3 GND (power), 4 OUT (power) "Output. The output supplies power to the load. A minimum output capacitor of 10uF is required to prevent oscillations. Larger output capacitors will be required for applications with large transient loads to limit peak (See Datasheet)", 5 SENSE (in) "Sense. For fixed voltage versions of the LT1963A (LT1963A-1.5/LT1963A-1.8/LT1963A-2.5/LT1963A-3.3), the SENSE pin is the input to the error amplifier. Optimum regulation will be obtained at the point where the SENSE pin is (See Datasheet)", 6 TAB (power)

## LT1963AEQ-1.8#PBF
designator U?
1.5 A, Low Noise, Fast Transient Response LDO Regulator, 2.1 to 20 V Vin, 1.8 V Vout, 5-pin DPAK (Q-5), -40 to 125 degC, Pb-Free; Manufacturer: Linear Technology; PartNumber: LT1963AEQ-1.8#PBF; Discrete Pass Element: no; Dropout Voltage(V): 0.34; Iout(mA): 1500; Isupply(mA): 1; Noise(uV): 40; Output Voltage: 1.8 V; PSRR(dB): 63; Shutdown Current(uA): 0.01; Vin Max(V): 20; Vin Min(V): 2.1; DatasheetVersion: Rev. E; PackageVersion: Rev. F, 09/2011; PackageReference: Q-5; PackageDescription: 5-Pin Plastic DD Pak, Body 10.2235 x 8.89 mm, Pitch 1.702 mm; Supplier 1: Digi-Key; Supplier Part Number 1: LT1963AEQ-1.8#PBF-ND; Supplier 2: Newark; Supplier Part Number 2: 57M7433; Number of Outputs: 1; RoHS: TRUE; Mounting Technology: Surface Mount; ComponentLink1Description: Manufacturer URL; ComponentLink1URL: http://www.linear.com/; ComponentLink2Description: Datasheet; ComponentLink2URL: http://cds.linear.com/docs/en/datasheet/1963afe.pdf; ComponentLink3Description: Package Specification; ComponentLink3URL: http://cds.linear.com/docs/en/packaging/Q%20DD5%2005-08-1461%20Rev%20F.pdf
footprint LT-Q-5_N (DPAK, 5-Leads, Body 10.22x8.89mm, Pitch 1.702mm, IPC Medium Density)
footprint LT-Q-5_L (DPAK, 5-Leads, Body 10.22x8.89mm, Pitch 1.702mm, IPC High Density)
footprint LT-Q-5_M (DPAK, 5-Leads, Body 10.22x8.89mm, Pitch 1.702mm, IPC Low Density)
pins: 1 ~{SHDN} (in) "Shutdown. The S\H\D\N\ pin is used to put the LT1963A regulators into a low power shutdown state. The output will be off when the S\H\D\N\ pin is pulled low. The S\H\D\N\ pin can be driven either by 5V logic or (See Datasheet)", 2 IN (power) "Input. Power is supplied to the device through the IN pin. A bypass capacitor is required on this pin if the device is more than six inches away from the main input filter capacitor. In general, the output impedance of a (See Datasheet)", 3 GND (power), 4 OUT (power) "Output. The output supplies power to the load. A minimum output capacitor of 10uF is required to prevent oscillations. Larger output capacitors will be required for applications with large transient loads to limit peak (See Datasheet)", 5 SENSE (in) "Sense. For fixed voltage versions of the LT1963A (LT1963A-1.5/LT1963A-1.8/LT1963A-2.5/LT1963A-3.3), the SENSE pin is the input to the error amplifier. Optimum regulation will be obtained at the point where the SENSE pin is (See Datasheet)", 6 TAB (power)

## LT1963AEQ-1.8#TR
designator U?
1.5 A, Low Noise, Fast Transient Response LDO Regulator, 2.1 to 20 V Vin, 1.8 V Vout, 5-pin DPAK (Q-5), -40 to 125 degC, Tape and Reel; Manufacturer: Linear Technology; PartNumber: LT1963AEQ-1.8#TR; Discrete Pass Element: no; Dropout Voltage(V): 0.34; Iout(mA): 1500; Isupply(mA): 1; Noise(uV): 40; Output Voltage: 1.8 V; PSRR(dB): 63; Shutdown Current(uA): 0.01; Vin Max(V): 20; Vin Min(V): 2.1; DatasheetVersion: Rev. E; PackageVersion: Rev. F, 09/2011; PackageReference: Q-5; PackageDescription: 5-Pin Plastic DD Pak, Body 10.2235 x 8.89 mm, Pitch 1.702 mm; Supplier 1: Digi-Key; Supplier Part Number 1: LT1963AEQ-1.8TR-ND; Number of Outputs: 1; Packing: Tape and Reel; RoHS: FALSE; Mounting Technology: Surface Mount; ComponentLink1Description: Manufacturer URL; ComponentLink1URL: http://www.linear.com/; ComponentLink2Description: Datasheet; ComponentLink2URL: http://cds.linear.com/docs/en/datasheet/1963afe.pdf; ComponentLink3Description: Package Specification; ComponentLink3URL: http://cds.linear.com/docs/en/packaging/Q%20DD5%2005-08-1461%20Rev%20F.pdf
footprint LT-Q-5_N (DPAK, 5-Leads, Body 10.22x8.89mm, Pitch 1.702mm, IPC Medium Density)
footprint LT-Q-5_L (DPAK, 5-Leads, Body 10.22x8.89mm, Pitch 1.702mm, IPC High Density)
footprint LT-Q-5_M (DPAK, 5-Leads, Body 10.22x8.89mm, Pitch 1.702mm, IPC Low Density)
pins: 1 ~{SHDN} (in) "Shutdown. The S\H\D\N\ pin is used to put the LT1963A regulators into a low power shutdown state. The output will be off when the S\H\D\N\ pin is pulled low. The S\H\D\N\ pin can be driven either by 5V logic or (See Datasheet)", 2 IN (power) "Input. Power is supplied to the device through the IN pin. A bypass capacitor is required on this pin if the device is more than six inches away from the main input filter capacitor. In general, the output impedance of a (See Datasheet)", 3 GND (power), 4 OUT (power) "Output. The output supplies power to the load. A minimum output capacitor of 10uF is required to prevent oscillations. Larger output capacitors will be required for applications with large transient loads to limit peak (See Datasheet)", 5 SENSE (in) "Sense. For fixed voltage versions of the LT1963A (LT1963A-1.5/LT1963A-1.8/LT1963A-2.5/LT1963A-3.3), the SENSE pin is the input to the error amplifier. Optimum regulation will be obtained at the point where the SENSE pin is (See Datasheet)", 6 TAB (power)

## LT1963AEQ-1.8#TRPBF
designator U?
1.5 A, Low Noise, Fast Transient Response LDO Regulator, 2.1 to 20 V Vin, 1.8 V Vout, 5-pin DPAK (Q-5), -40 to 125 degC, Pb-Free, Tape and Reel; Manufacturer: Linear Technology; PartNumber: LT1963AEQ-1.8#TRPBF; Discrete Pass Element: no; Dropout Voltage(V): 0.34; Iout(mA): 1500; Isupply(mA): 1; Noise(uV): 40; Output Voltage: 1.8 V; PSRR(dB): 63; Shutdown Current(uA): 0.01; Vin Max(V): 20; Vin Min(V): 2.1; DatasheetVersion: Rev. E; PackageVersion: Rev. F, 09/2011; PackageReference: Q-5; PackageDescription: 5-Pin Plastic DD Pak, Body 10.2235 x 8.89 mm, Pitch 1.702 mm; Supplier 1: Digi-Key; Supplier Part Number 1: LT1963AEQ-1.8#TRPBF-ND; Supplier 2: Newark; Supplier Part Number 2: 57M7435; Number of Outputs: 1; Packing: Tape and Reel; RoHS: TRUE; Mounting Technology: Surface Mount; ComponentLink1Description: Manufacturer URL; ComponentLink1URL: http://www.linear.com/; ComponentLink2Description: Datasheet; ComponentLink2URL: http://cds.linear.com/docs/en/datasheet/1963afe.pdf; ComponentLink3Description: Package Specification; ComponentLink3URL: http://cds.linear.com/docs/en/packaging/Q%20DD5%2005-08-1461%20Rev%20F.pdf
footprint LT-Q-5_N (DPAK, 5-Leads, Body 10.22x8.89mm, Pitch 1.702mm, IPC Medium Density)
footprint LT-Q-5_L (DPAK, 5-Leads, Body 10.22x8.89mm, Pitch 1.702mm, IPC High Density)
footprint LT-Q-5_M (DPAK, 5-Leads, Body 10.22x8.89mm, Pitch 1.702mm, IPC Low Density)
pins: 1 ~{SHDN} (in) "Shutdown. The S\H\D\N\ pin is used to put the LT1963A regulators into a low power shutdown state. The output will be off when the S\H\D\N\ pin is pulled low. The S\H\D\N\ pin can be driven either by 5V logic or (See Datasheet)", 2 IN (power) "Input. Power is supplied to the device through the IN pin. A bypass capacitor is required on this pin if the device is more than six inches away from the main input filter capacitor. In general, the output impedance of a (See Datasheet)", 3 GND (power), 4 OUT (power) "Output. The output supplies power to the load. A minimum output capacitor of 10uF is required to prevent oscillations. Larger output capacitors will be required for applications with large transient loads to limit peak (See Datasheet)", 5 SENSE (in) "Sense. For fixed voltage versions of the LT1963A (LT1963A-1.5/LT1963A-1.8/LT1963A-2.5/LT1963A-3.3), the SENSE pin is the input to the error amplifier. Optimum regulation will be obtained at the point where the SENSE pin is (See Datasheet)", 6 TAB (power)